# Altium footprint library BLP2032SM-GTR.PcbLib: 1 footprints
Each footprint in its own frame and in the unit in brackets; x right, y up, seen from the top. Pads: shape width x height; smd on the part's side, far side on the other; paste and mask are expansions set on the pad; w line width, h text height; cw(c..) or ccw(c..) is an arc to the next point about the centre after c.
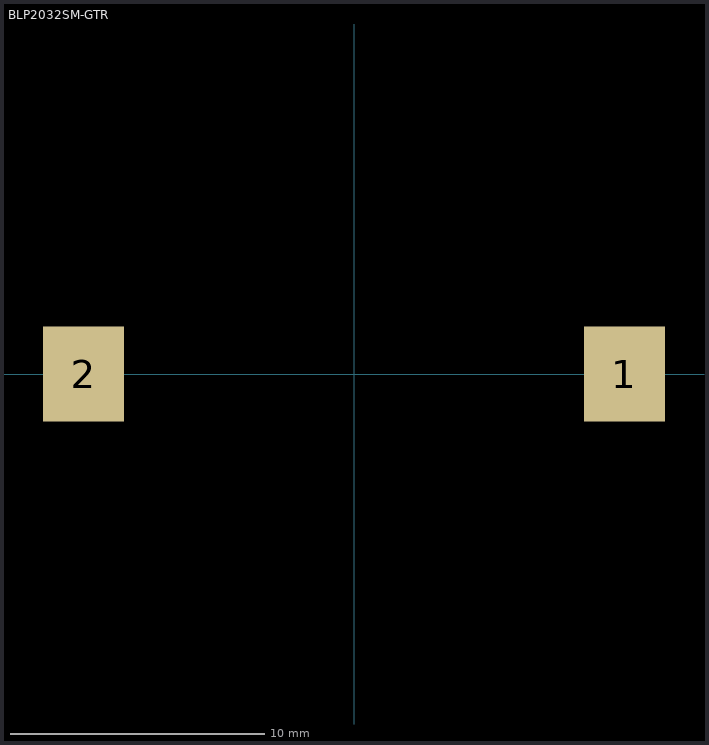
[diagram p0: the footprint, top view; thin cyan lines are the x and y axes]

## BLP2032SM-GTR [mm] "CR2032 Battery Holder"
height 4.75
pads (2):
  rect 3.2x3.75 smd: 1(10.63,0) 2(-10.63,0)
3D body: height 4.75, standoff 0, extent -11.581,-7.493 12.803,7.493